# EAGLE library part IV-6 (library vfd)
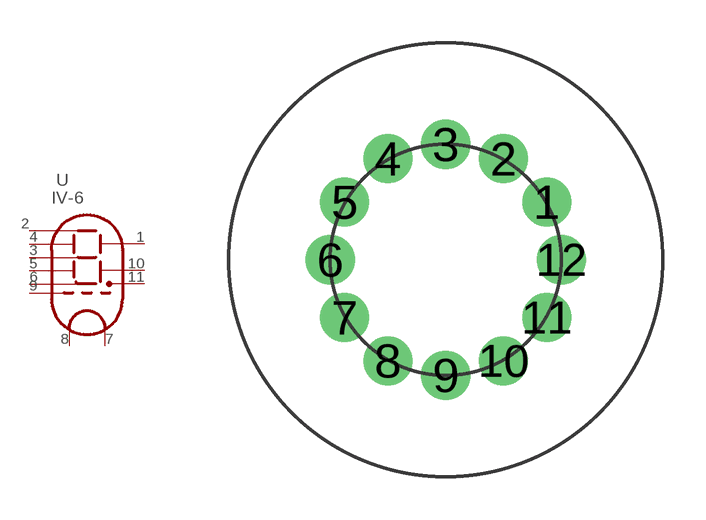
[diagram p0: symbol with the pads of IV-6; footprint IV-6]

Designator prefix -

## IV-6  [IV-6]
1  B  in
2  A  in
3  G  in
4  F  in
5  E  in
6  D  in
7  H2  in
8  H1  in
9  S  in
10  C  in
11  DP  in

## Footprint IV-6 (pad centres in mm)
drill 0.5 pad 1.7: 1 0.5,-3; 2 -1,-1.5; 3 -3,-1; 4 -5,-1.5; 5 -6.5,-3; 6 -7,-5; 7 -6.5,-7; 8 -5,-8.5; 9 -3,-9; 10 -1,-8.5; 11 0.5,-7; 12 1,-5